# EAGLE library part ESP32-S2FN4R2 (library ESP32-S2FN4R2)
SMD WI-FI IC, SINGLE-CORE MCU Source: Datasheet <https://www.espressif.com/sites/default/files/documentation/esp32-s2_datasheet_en.pdf>
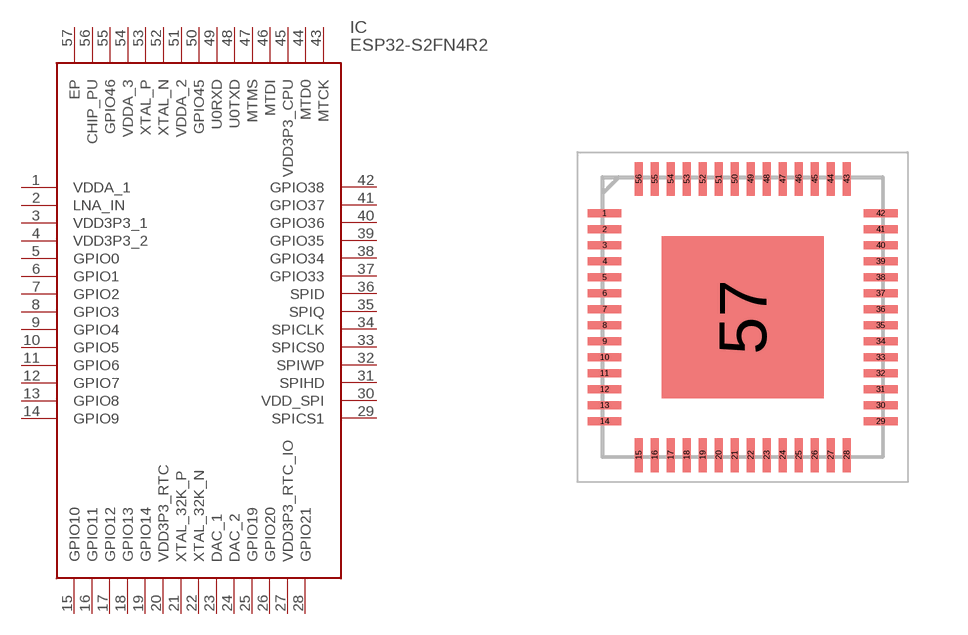
[diagram p0: symbol with the pads of QFN40P700X700X90-57N; footprint QFN40P700X700X90-57N]

Designator prefix IC

## ESP32-S2FN4R2 (Description: SMD WI-FI IC, SINGLE-CORE MCU; Height: 0.9mm; Manufacturer_Name: Espressif Systems; Manufacturer_Part_Number: ESP32-S2FN4R2)  [QFN40P700X700X90-57N]
1  VDDA_1
2  LNA_IN
3  VDD3P3_1
4  VDD3P3_2
5  GPIO0
6  GPIO1
7  GPIO2
8  GPIO3
9  GPIO4
10  GPIO5
11  GPIO6
12  GPIO7
13  GPIO8
14  GPIO9
15  GPIO10
16  GPIO11
17  GPIO12
18  GPIO13
19  GPIO14
20  VDD3P3_RTC
21  XTAL_32K_P
22  XTAL_32K_N
23  DAC_1
24  DAC_2
25  GPIO19
26  GPIO20
27  VDD3P3_RTC_IO
28  GPIO21
29  SPICS1
30  VDD_SPI
31  SPIHD
32  SPIWP
33  SPICS0
34  SPICLK
35  SPIQ
36  SPID
37  GPIO33
38  GPIO34
39  GPIO35
40  GPIO36
41  GPIO37
42  GPIO38
43  MTCK
44  MTD0
45  VDD3P3_CPU
46  MTDI
47  MTMS
48  U0TXD
49  U0RXD
50  GPIO45
51  VDDA_2
52  XTAL_N
53  XTAL_P
54  VDDA_3
55  GPIO46
56  CHIP_PU
57  EP

## Footprint QFN40P700X700X90-57N (pad centres in mm)
QFN56 (7×7 mm) Package
smd 0.85 x 0.2: 1 -3.45,2.6; 2 -3.45,2.2; 3 -3.45,1.8; 4 -3.45,1.4; 5 -3.45,1; 6 -3.45,0.6; 7 -3.45,0.2; 8 -3.45,-0.2; 9 -3.45,-0.6; 10 -3.45,-1; 11 -3.45,-1.4; 12 -3.45,-1.8; 13 -3.45,-2.2; 14 -3.45,-2.6; 29 3.45,-2.6; 30 3.45,-2.2; 31 3.45,-1.8; 32 3.45,-1.4; 33 3.45,-1; 34 3.45,-0.6; 35 3.45,-0.2; 36 3.45,0.2; 37 3.45,0.6; 38 3.45,1; 39 3.45,1.4; 40 3.45,1.8; 41 3.45,2.2; 42 3.45,2.6
smd 0.2 x 0.85: 15 -2.6,-3.45; 16 -2.2,-3.45; 17 -1.8,-3.45; 18 -1.4,-3.45; 19 -1,-3.45; 20 -0.6,-3.45; 21 -0.2,-3.45; 22 0.2,-3.45; 23 0.6,-3.45; 24 1,-3.45; 25 1.4,-3.45; 26 1.8,-3.45; 27 2.2,-3.45; 28 2.6,-3.45; 43 2.6,3.45; 44 2.2,3.45; 45 1.8,3.45; 46 1.4,3.45; 47 1,3.45; 48 0.6,3.45; 49 0.2,3.45; 50 -0.2,3.45; 51 -0.6,3.45; 52 -1,3.45; 53 -1.4,3.45; 54 -1.8,3.45; 55 -2.2,3.45; 56 -2.6,3.45
smd 4.05 x 4.05: 57 0,0